# Altium schematic symbol library P_MOS-AO3401.SchLib: 1 symbol
Pins are listed as number, name and electrical type; pins without a type are passive.

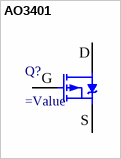
[diagram p0: symbol AO3401]

## AO3401
designator Q?
pins: 1 G, 2 S, 3 D